# EAGLE library part DEBUGHEAD (library foe-scale)
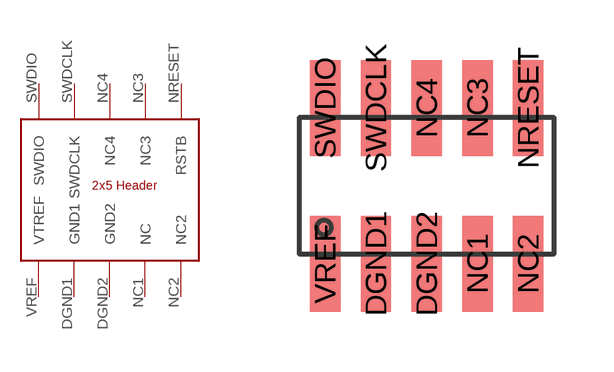
[diagram p6: symbol with the pads of DEBUGHEAD; footprint DEBUGHEAD]

Designator prefix DBG

## DEBUGHEAD  [DEBUGHEAD]
DGND1  GND1
DGND2  GND2
NC1  NC
NC2  NC2
NC3  NC3
NC4  NC4
NRESET  RSTB
SWDCLK  SWDCLK
SWDIO  SWDIO
VREF  VTREF

## Footprint DEBUGHEAD (pad centres in mm)
smd 0.76 x 2.4: DGND1 1.27,-3.9; DGND2 2.54,-3.9; NC1 3.81,-3.9; NC2 5.08,-3.9; NC3 3.81,0; NC4 2.54,0; NRESET 5.08,0; SWDCLK 1.27,0; SWDIO 0,0; VREF 0,-3.9